# EAGLE library part 1PEEK-8_C (library con-odu_med)
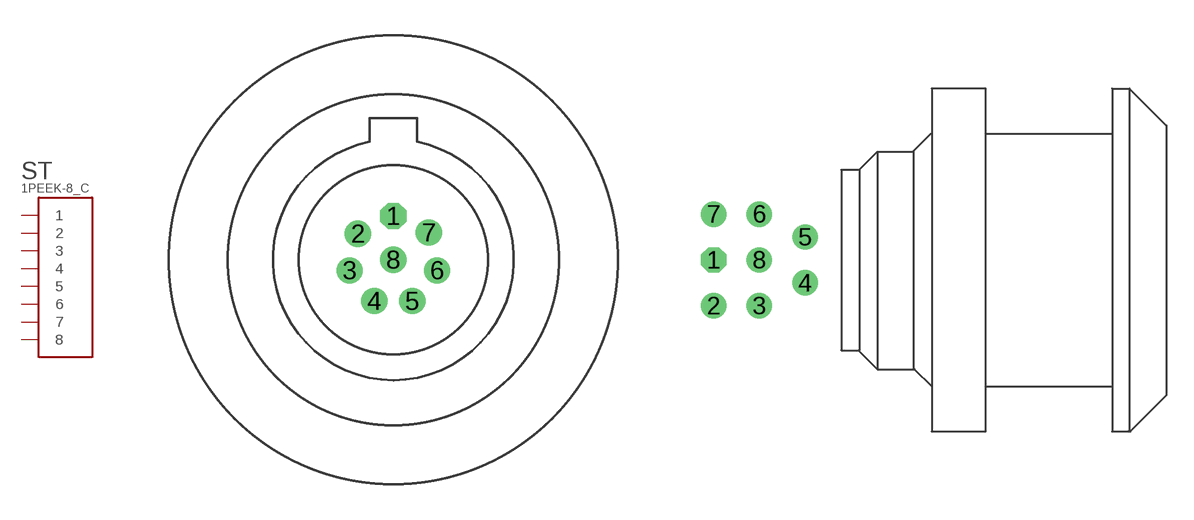
[diagram p15: symbol with the pads of 1PEEK08; footprints 1PEEK08, 1PEEK08_S]

Designator prefix ST

## 1PEEK-8_C  [1PEEK08]
1  1  pas
2  2  pas
3  3  pas
4  4  pas
5  5  pas
6  6  pas
7  7  pas
8  8  pas

## 1PEEK-8_C1PEEK-5_S  [1PEEK08_S]
Pads as for 1PEEK08

## Footprint 1PEEK08 (pad centres in mm)
drill 0.6 octagon: 1 0,1.85
drill 0.6: 2 -1.5,1.1; 3 -1.85,-0.45; 4 -0.8,-1.75; 5 0.8,-1.75; 6 1.85,-0.45; 7 1.5,1.15; 8 0,0

## Footprint 1PEEK08_S (pad centres in mm)
drill 0.9 octagon: 1 -5.08,0
drill 0.9: 2 -5.08,-2.54; 3 -2.54,-2.54; 4 0,-1.27; 5 0,1.27; 6 -2.54,2.54; 7 -5.08,2.54; 8 -2.54,0